# EAGLE library part MCP41010 (library common components)
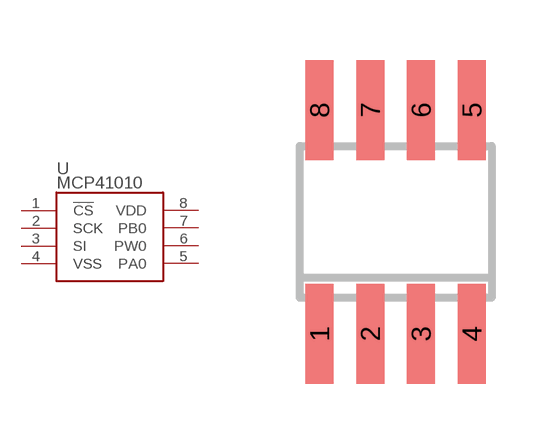
[diagram p12: symbol with the pads of SO08; footprint SO08]

Designator prefix U

## MCP41010  [SO08]
1  !CS!
2  SCK
3  SI
4  VSS
5  PA0
6  PW0
7  PB0
8  VDD

## Footprint SO08 (pad centres in mm)
SMALL OUTLINE INTEGRATED CIRCUIT body 3.9 mm/JEDEC MS-012AA
smd 0.7 x 2.5: 1 -1.905,-2.8; 2 -0.635,-2.8; 3 0.635,-2.8; 4 1.905,-2.8; 5 1.905,2.8; 6 0.635,2.8; 7 -0.635,2.8; 8 -1.905,2.8